# Altium integrated library TI Amplifiers and Linear Operational Amplifier High Speed.IntLib: 1100 symbols (part 44 of 44)
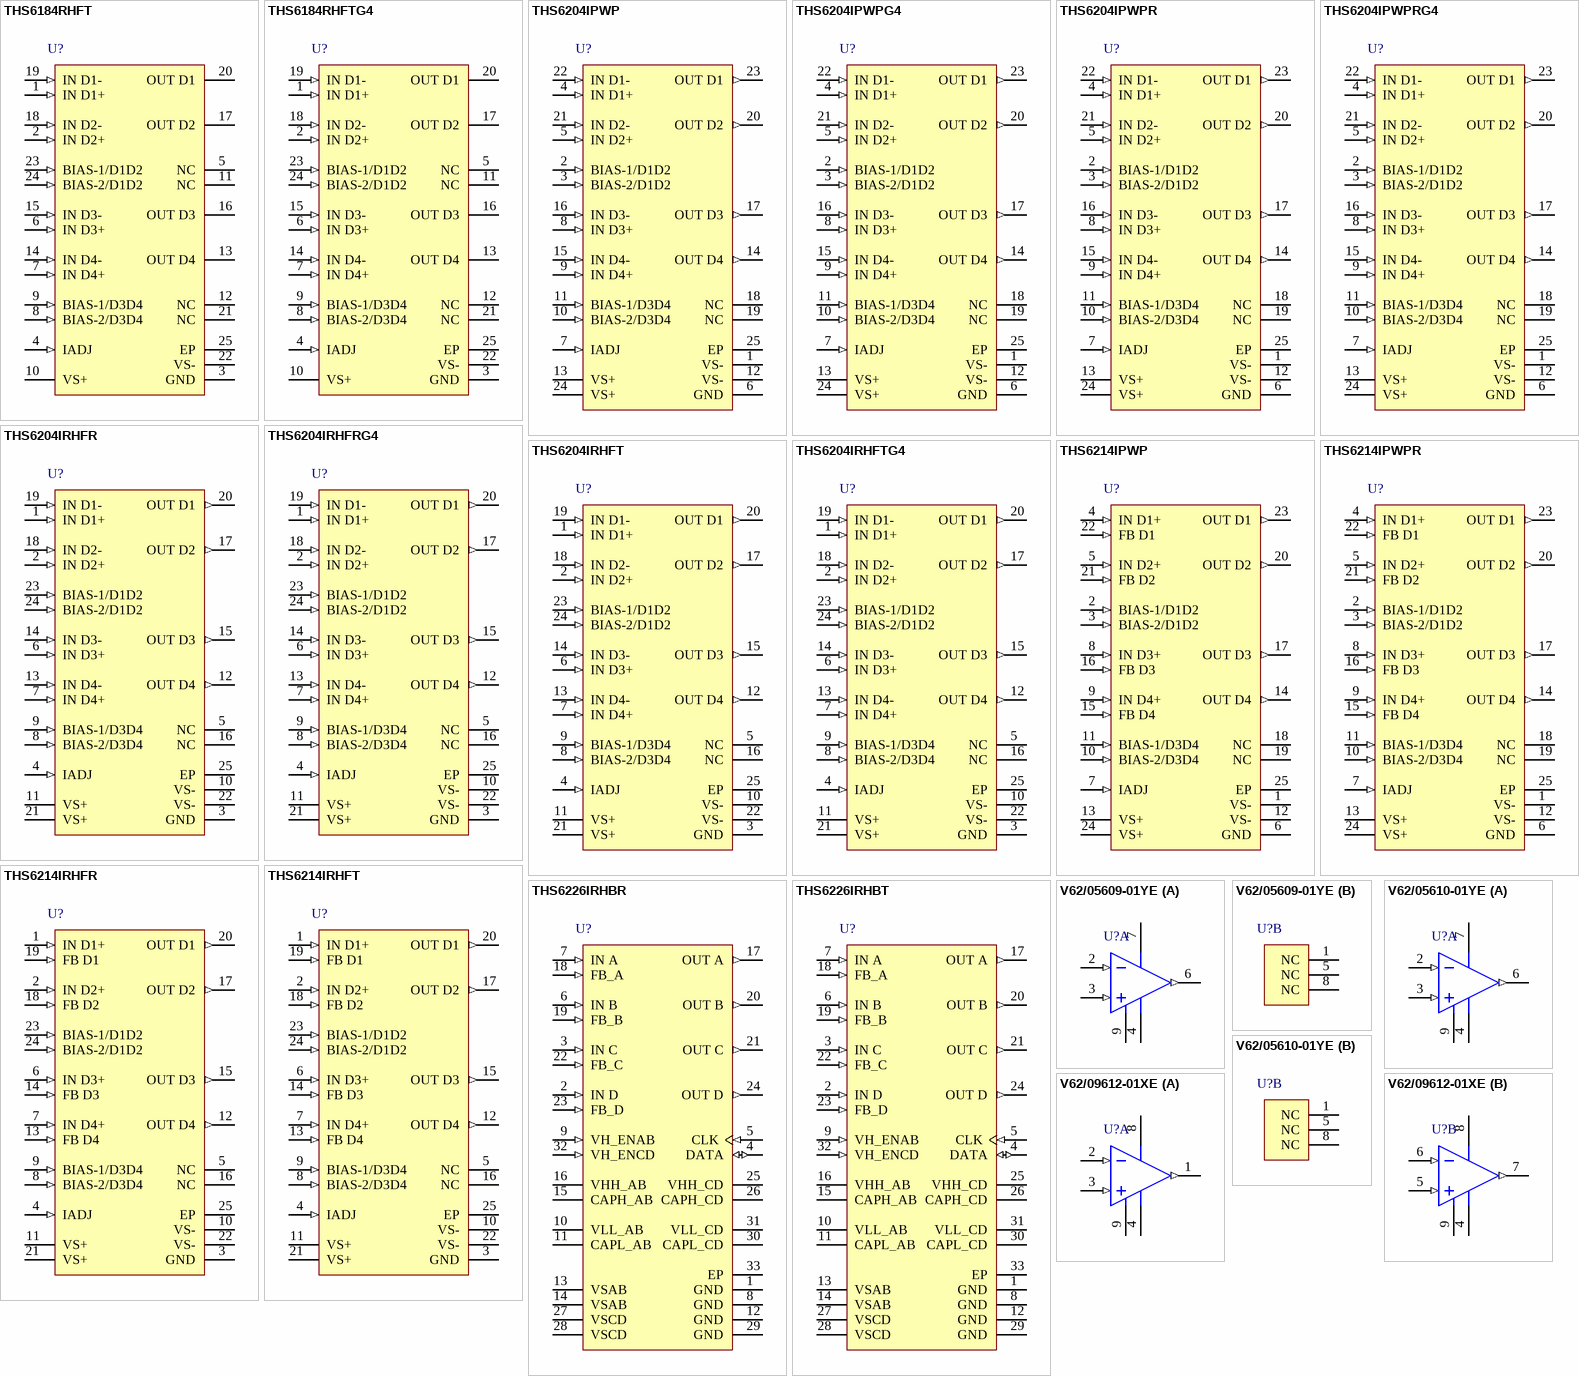
[diagram p94: symbols THS6184RHFT to V62/09612-01XE]

## THS6226IRHBT
designator U?
Class H, Fixed Gain VDSL2 Dual Port Low-Power xDSL Line Driver, 10 to 12.5 V, -40 to 85 degC, 32-pin QFN (RHB32), Green (RoHS & no Sb/Br); Manufacturer: Texas Instruments; PartNumber: THS6226IRHBT; 2nd Harmonic(dBc): 91; @ MHz: 1; Acl, min stable gain(V/V): 19; BW @ Acl(MHz): 125; Io(Typ)(mA): 383; Iq per channel(Max)(mA): 24.5; Number of Channels: 2; Slew Rate(Typ)(V/us): 1500; Sub Family: High Output Current Amplifier (>=50mA), High Speed Amplifier (>=50MHz); THD (Fc is 1 MHz)(Typ)(dB): -88; Vio(Max)(mV): 6; Vn at Flatband(Typ)(nV/rtHz): 6.3; Vs(Max)(V): 12.5; Vs(Min)(V): 10; DatasheetVersion: SBOS499C; PackageVersion: 4204326/D, 06/2011; PackageReference: RHB32-3450X3450TP; PackageDescription: 32-Pin Plastic Flat Pack, Body 5 x 5 mm, Pitch 0.5 mm; Supplier 1: Digi-Key; Supplier Part Number 1: 296-28304-2-ND; Supplier 2: Digi-Key; Supplier Part Number 2: 296-28304-1-ND; Supplier 3: Digi-Key; Supplier Part Number 3: 296-28304-6-ND; Supplier 4: Farnell; Supplier Part Number 4: 1895365; Supplier 5: Mouser; Supplier Part Number 5: 595-THS6226IRHBT; 3rd Harmonic(dBc): 91; Eco-Plan: Green (RoHS & no Sb/Br); Mounting Technology: Surface Mount; Code_JEDEC: MO-220; ComponentLink1Description: Manufacturer URL; ComponentLink1URL: http://www.ti.com/; ComponentLink2Description: Datasheet; ComponentLink2URL: http://www.ti.com/general/docs/lit/getliterature.tsp?genericPartNumber=THS6226&fileType=pdf; ComponentLink3Description: Package Specification; ComponentLink3URL: http://www.ti.com/lit/ml/mpqf130c/mpqf130c.pdf
footprint TI-RHB32-3450X3450TP_V (QFN, 32-Leads, Body 5x5mm, Pitch 0.5mm, Thermal Pad 3.45x3.45mm)
pins: 1 GND (power) "Analog ground", 2 IN D (in) "Input D of amplifier CD", 3 IN C (in) "Input C of amplifier CD", 4 DATA (io) "Serial interface data pin", 5 CLK (in) "Serial interface CLK pin", 6 IN B (in) "Input B of amplifier AB", 7 IN A (in) "Input A of amplifier AB", 8 GND (power) "Analog ground", 9 VH_ENAB (in) "Class H mode control pin for amplifier AB", 10 VLL_AB "Amplifier AB low pump supply", 11 CAPL_AB "Amplifier AB negative voltage pump capacitor pin", 12 GND (power) "Analog ground", 13 VSAB (power) "Amplifier AB supply voltage", 14 VSAB (power) "Amplifier AB supply voltage", 15 CAPH_AB "Amplifier AB positive voltage pump capacitor pin", 16 VHH_AB "Amplifier AB high pump supply", 17 OUT A (out) "Output A of amplifier AB", 18 FB_A (in) "Feedback for active output impedance of amplifier AB", 19 FB_B (in) "Feedback for active output impedance of amplifier AB", 20 OUT B (out) "Output B of amplifier AB", 21 OUT C (out) "Output C of amplifier CD", 22 FB_C (in) "Feedback for active output impedance of amplifier CD", 23 FB_D (in) "Feedback for active output impedance of amplifier CD", 24 OUT D (out) "Output D of amplifier CD", 25 VHH_CD "Amplifier CD high pump supply", 26 CAPH_CD "Amplifier CD positive voltage pump capacitor pin", 27 VSCD (power) "Amplifier CD supply voltage", 28 VSCD (power) "Amplifier CD supply voltage", 29 GND (power) "Analog ground", 30 CAPL_CD "Amplifier CD negative voltage pump capacitor pin", 31 VLL_CD "Amplifier CD low pump supply", 32 VH_ENCD (in) "Class H mode control pin for amplifier CD", 33 EP (power)

## V62/05609-01YE
designator U?
Enhanced Product 1.8-Ghz Low Distortion Current Feedback Amplifier, 6.6 to 15 V, -55 to 125 degC, 8-pin SOP (DGN8), Green (RoHS & no Sb/Br); Manufacturer: Texas Instruments; PartNumber: V62/05609-01YE; 2nd Harmonic(dBc): 77; 3rd Harmonic(dBc): 93; @ MHz: 10; Acl, min stable gain(V/V): 1; BW @ Acl(MHz): 1800; Diff Gain(%): 0.008; Diff Phase(deg): 0.007; Iib(Max)(nA): 60000; Io(Typ)(mA): 115; Iq per channel(Max)(mA): 22; Settling Time (0.1%)(Typ)(ns): 20; Slew Rate(Typ)(V/us): 6700; Sub Family: High Output Current Amplifier (>=50mA), High Speed Amplifier (>=50MHz); Vio(Max)(mV): 4; Vn at Flatband(Typ)(nV/rtHz): 1.65; Vs(Max)(V): 15; Vs(Min)(V): 6.6; DatasheetVersion: SGLS283B; PackageVersion: 4073271/F, 05/2011; PackageReference: DGN8-1760X1425TP; PackageDescription: 8-pin Plastic Small Outline, Body 3 x 3 mm, Pitch 0.65 mm; Supplier 1: Newark; Supplier Part Number 1: 46M1773; Supplier 2: Mouser; Supplier Part Number 2: 595-V62/05609-01YE; Eco-Plan: Green (RoHS & no Sb/Br); Number of Channels: 1; Mounting Technology: Surface Mount; Code_JEDEC: MO-187; ComponentLink1Description: Manufacturer URL; ComponentLink1URL: http://www.ti.com/; ComponentLink2Description: Datasheet; ComponentLink2URL: http://www.ti.com/general/docs/lit/getliterature.tsp?genericPartNumber=THS3201-EP&fileType=pdf; ComponentLink3Description: Package Specification; ComponentLink3URL: http://www.ti.com/litv/pdf/mpds046e
footprint TI-DGN8-1760X1425TP_N (SOP, 8-Leads, Body 3x3mm, Pitch 0.65mm, Thermal Pad 1.76x1.425mm, IPC Medium Density)
footprint TI-DGN8-1760X1425TP_L (SOP, 8-Leads, Body 3x3mm, Pitch 0.65mm, Thermal Pad 1.76x1.425mm, IPC High Density)
footprint TI-DGN8-1760X1425TP_M (SOP, 8-Leads, Body 3x3mm, Pitch 0.65mm, Thermal Pad 1.76 x 1.425 mm, IPC Low Density)
part A pins: 2 VIN- (in), 3 VIN+ (in), 4 VS- (power), 6 VOUT- (out), 7 VS+ (power), 9 EP (power)
part B pins: 1 NC, 5 NC, 8 NC

## V62/05610-01YE
designator U?
Enhanced Product Low Noise High Slew Rate Unity Gain Stable Voltage Feedback Amplifier, 5 to 10 V, -55 to 125 degC, 8-pin SOP (DGN8), Green (RoHS & no Sb/Br); Manufacturer: Texas Instruments; PartNumber: V62/05610-01YE; 2nd Harmonic(dBc): 92; 3rd Harmonic(dBc): 95; @ MHz: 30; BW @ Acl(MHz): 1400; Diff Gain(%): 0.007; Diff Phase(deg): 0.004; Iib(Max)(nA): 18000; Io(Typ)(mA): 160; Iq per channel(Max)(mA): 24; Number of Channels: 1; Settling Time (0.1%)(Typ)(ns): 25; Slew Rate(Typ)(V/us): 1000; Sub Family: High Output Current Amplifier (>=50mA), High Speed Amplifier (>=50MHz); THD (Fc is 1 MHz)(Typ)(dB): -95; Vio(Max)(mV): 14; Vn at Flatband(Typ)(nV/rtHz): 3; Vs(Max)(V): 10; Vs(Min)(V): 5; DatasheetVersion: SGLS270C; PackageVersion: 4073271/F, 05/2011; PackageReference: DGN8-1760X1425TP; PackageDescription: 8-pin Plastic Small Outline, Body 3 x 3 mm, Pitch 0.65 mm; Supplier 1: Newark; Supplier Part Number 1: 46M1774; Supplier 2: Mouser; Supplier Part Number 2: 595-V62/05610-01YE; Eco-Plan: Green (RoHS & no Sb/Br); Mounting Technology: Surface Mount; Code_JEDEC: MO-187; ComponentLink1Description: Manufacturer URL; ComponentLink1URL: http://www.ti.com/; ComponentLink2Description: Datasheet; ComponentLink2URL: http://www.ti.com/general/docs/lit/getliterature.tsp?genericPartNumber=THS4271-EP&fileType=pdf; ComponentLink3Description: Package Specification; ComponentLink3URL: http://www.ti.com/litv/pdf/mpds046e
footprint TI-DGN8-1760X1425TP_N (SOP, 8-Leads, Body 3x3mm, Pitch 0.65mm, Thermal Pad 1.76x1.425mm, IPC Medium Density)
footprint TI-DGN8-1760X1425TP_L (SOP, 8-Leads, Body 3x3mm, Pitch 0.65mm, Thermal Pad 1.76x1.425mm, IPC High Density)
footprint TI-DGN8-1760X1425TP_M (SOP, 8-Leads, Body 3x3mm, Pitch 0.65mm, Thermal Pad 1.76 x 1.425 mm, IPC Low Density)
part A pins: 2 IN- (in), 3 IN+ (in), 4 VS- (power), 6 VOUT (out), 7 VS+ (power), 9 EP (power)
part B pins: 1 NC, 5 NC, 8 NC

## V62/09612-01XE
designator U?
Enhanced Product 100 MHz Low-Noise High-Speed Amplifier, 9 to 32 V, -55 to 125 degC, 8-pin SOP (DGN8), Green (RoHS & no Sb/Br); Manufacturer: Texas Instruments; PartNumber: V62/09612-01XE; 2nd Harmonic(dBc): 55; 3rd Harmonic(dBc): 62; @ MHz: 5; Acl, min stable gain(V/V): 1; BW @ Acl(MHz): 100; Diff Gain(%): 0.015; Diff Phase(deg): 0.025; Iib(Max)(nA): 8000; Io(Typ)(mA): 90; Iq per channel(Max)(mA): 11; Number of Channels: 2; Sub Family: High Output Current Amplifier (>=50mA), High Speed Amplifier (>=50MHz), High Supply Voltage Amplifier (>=30V); THD (Fc is 1 MHz)(Typ)(dB): -81; Vn at Flatband(Typ)(nV/rtHz): 1.6; Vs(Max)(V): 32; Vs(Min)(V): 9; DatasheetVersion: SLOS610; PackageVersion: 4073271/F, 05/2011; PackageReference: DGN8-1760X1425TP; PackageDescription: 8-pin Plastic Small Outline, Body 3 x 3 mm, Pitch 0.65 mm; Supplier 1: Mouser; Supplier Part Number 1: 595-V62/09612-01XE; Eco-Plan: Green (RoHS & no Sb/Br); Slew Rate(Typ)(V/us): 100; Vio(Max)(mV): 2; Mounting Technology: Surface Mount; Code_JEDEC: MO-187; ComponentLink1Description: Manufacturer URL; ComponentLink1URL: http://www.ti.com/; ComponentLink2Description: Datasheet; ComponentLink2URL: http://www.ti.com/general/docs/lit/getliterature.tsp?genericPartNumber=THS4032-EP&fileType=pdf; ComponentLink3Description: Package Specification; ComponentLink3URL: http://www.ti.com/litv/pdf/mpds046e
footprint TI-DGN8-1760X1425TP_N (SOP, 8-Leads, Body 3x3mm, Pitch 0.65mm, Thermal Pad 1.76x1.425mm, IPC Medium Density)
footprint TI-DGN8-1760X1425TP_L (SOP, 8-Leads, Body 3x3mm, Pitch 0.65mm, Thermal Pad 1.76x1.425mm, IPC High Density)
footprint TI-DGN8-1760X1425TP_M (SOP, 8-Leads, Body 3x3mm, Pitch 0.65mm, Thermal Pad 1.76 x 1.425 mm, IPC Low Density)
pins on every part: 4 VCC- (power), 8 VCC+ (power), 9 EP
part A pins: 1 OUT1 (out), 2 IN1- (in), 3 IN1+ (in)
part B pins: 5 IN2+ (in), 6 IN2- (in), 7 OUT2 (out)